# Altium integrated library VJ1206Y472KXEAT5Z.IntLib: 1 symbol
Pins are listed as number, name and electrical type; pins without a type are passive.

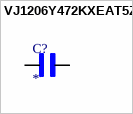
[diagram p0: symbol VJ1206Y472KXEAT5Z]

## VJ1206Y472KXEAT5Z
designator C?
MF: {'manufacturer': u'Vishay Vitramon'}; MP: VJ1206Y472KXEAT5Z; Package: None; Price: None; Value: *; Availability: Unavailable
footprint CAPC3216X170N
pins: 1, 2